# Altium footprint library rt10.PcbLib: 51 footprints (part 1 of 4)
Each footprint in its own frame and in the unit in brackets; x right, y up, seen from the top. Pads: shape width x height; smd on the part's side, far side on the other; paste and mask are expansions set on the pad; w line width, h text height; cw(c..) or ccw(c..) is an arc to the next point about the centre after c.
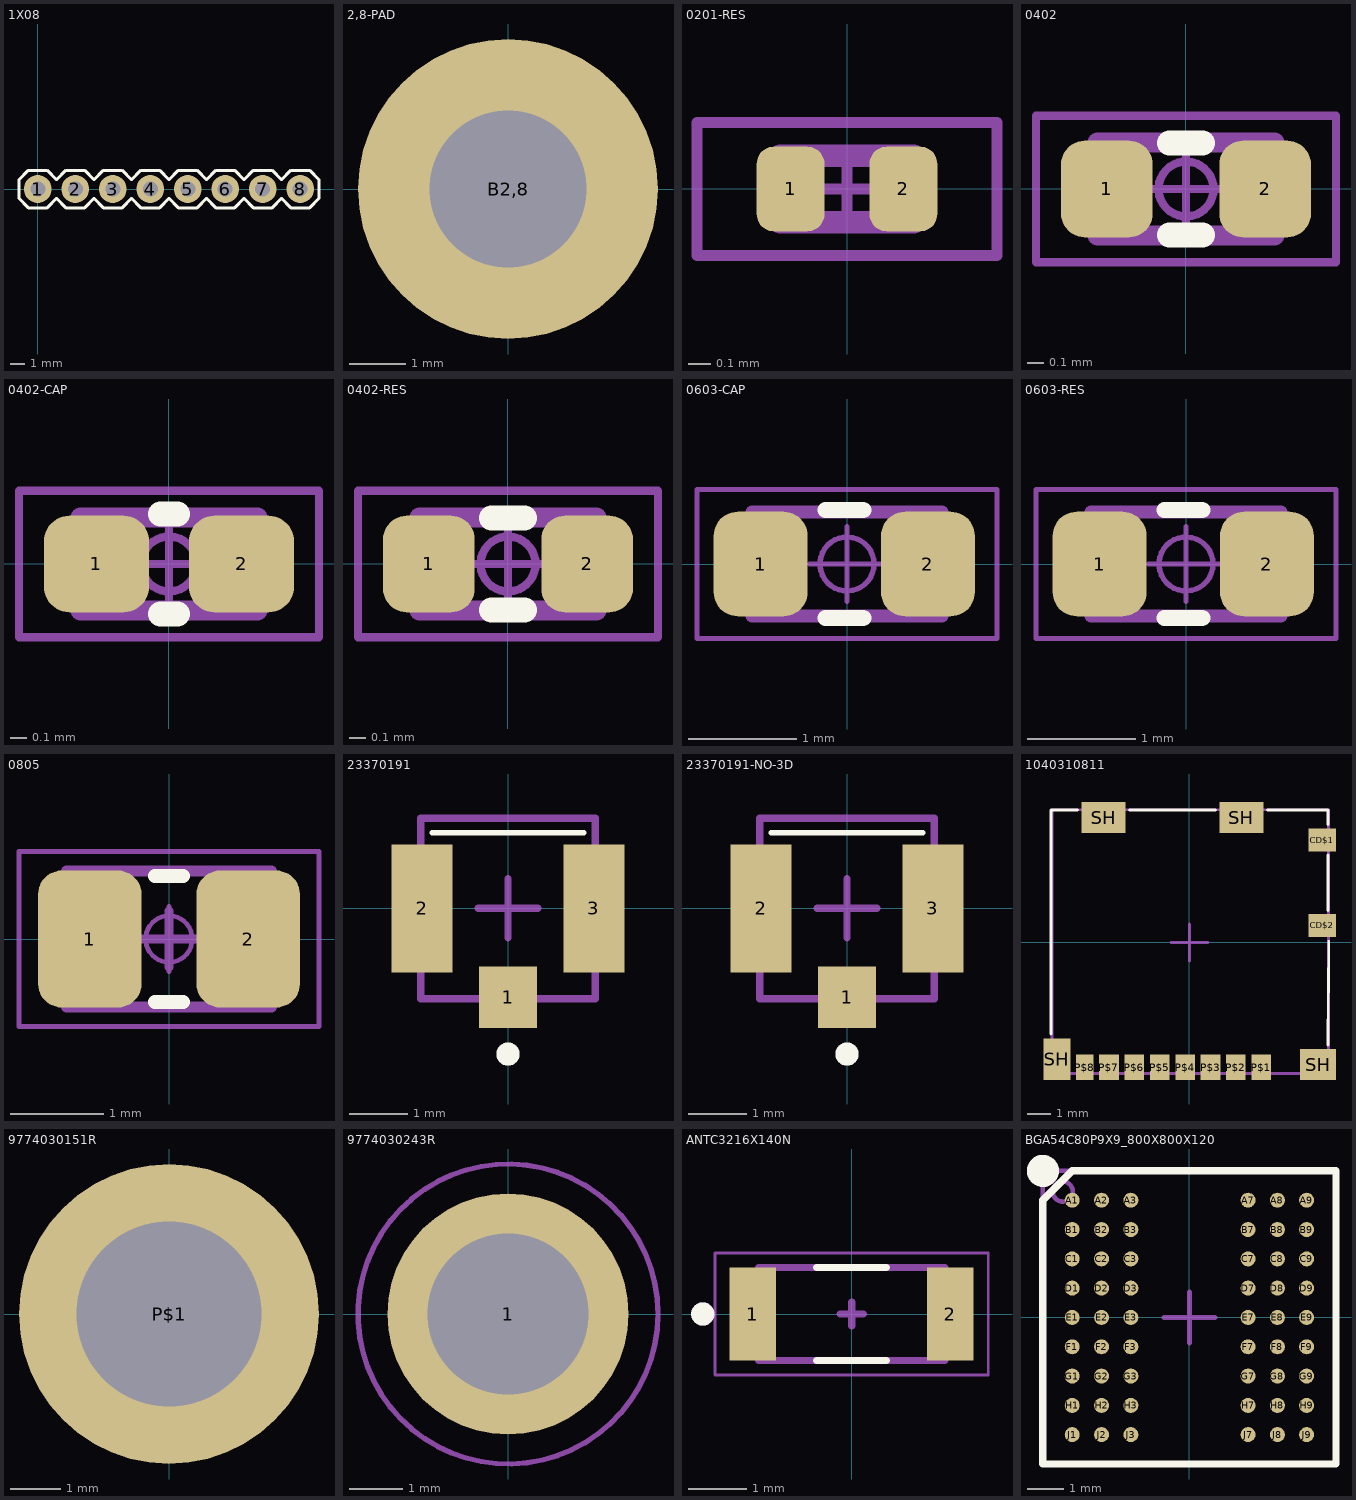
[diagram p0: the footprints below, top view; thin cyan lines are the x and y axes]

## 1X08 [mil] "1X08"
pads (8):
  round 74 hole 40: 1(0,0) 2(100,0) 3(200,0) 4(300,0) 5(400,0) 6(500,0) 7(600,0) 8(700,0)
Top Overlay:
  lines w8: -50,-25 -50,25 -25,50 25,50 50,25 75,50 125,50 150,25 175,50 225,50 250,25 275,50 325,50 350,25 375,50 425,50 450,25 475,50 525,50 550,25 575,50 625,50 650,25 675,50 725,50 750,25 750,-25 725,-50 675,-50 650,-25 625,-50 575,-50 550,-25 525,-50 475,-50 450,-25 425,-50 375,-50 350,-25 325,-50 275,-50 250,-25 225,-50 175,-50 150,-25 125,-50 75,-50 50,-25 25,-50 -25,-50 -50,-25

## 2,8-PAD [mil] "2,8-PAD"
pads (1):
  round 210 hole 110.24: B2,8(0,0)

## 0201-RES [mil] "0201 IPC-7351"
height 10.24
pads (2):
  rrect50% 12x15 smd mask+1.97: 1(-10,0) 2(10,0)
Top Solder:
  rectangle: -7,-9 8,9
Mechanical 13:
  lines w3.94: -11.81,-5.91 11.81,-5.91 11.81,5.91 -11.81,5.91 -11.81,-5.91
  text ".designator" at -7.87,-2.95 h15.75
Mechanical 15:
  lines w1.97: -3.94,0 0,0 ; 0,-3.94 0,0 ; 0,3.94 0,0 ; 3.94,0 0,0 ; -26.57,-11.81 26.57,-11.81 26.57,11.81 -26.57,11.81 -26.57,-11.81
3D body "R0201.step": height 9.06, standoff 0, extent -11.81,-5.91 11.81,5.91

## 0402 [mm] "Chip Resistor, 2-Leads, Body  0402 (in) 1005 (mm), IPC Medium Density"
height 0.5
pads (2):
  rrect51% 0.55x0.58 smd mask+0.05: 1(-0.475,0) 2(0.475,0)
Top Overlay:
  lines w0.15: -0.1,-0.275 0.1,-0.275 ; -0.1,0.275 0.1,0.275
Mechanical 13:
  lines w0.12: -0.53,-0.28 -0.53,0.28 0.53,0.28 0.53,-0.28 -0.53,-0.28
  text ".designator" at -0.432,-0.152 h0.3
Mechanical 15:
  circle w0.05: c0,0 r0.165
  lines w0.05: -0.22,0 0.22,0 ; 0,-0.22 0,0.22 ; -0.9,-0.44 -0.9,0.44 0.9,0.44 0.9,-0.44 -0.9,-0.44
3D body "RES-0402.stp": height 0.34, standoff 0, extent -0.5,-0.25 0.5,0.25

## 0402-CAP [mm] "Chip Capacitor, 2-Leads, Body  0402 (in) 1005 (mm), IPC Medium Density"
height 0.5
pads (2):
  rrect52% 0.63x0.58 smd mask+0.05: 1(-0.435,0) 2(0.435,0)
Top Overlay:
  lines w0.15: -0.05,-0.3 0.05,-0.3 ; -0.05,0.3 0.05,0.3
Mechanical 13:
  lines w0.12: -0.53,-0.28 -0.53,0.28 0.53,0.28 0.53,-0.28 -0.53,-0.28
  text ".designator" at -0.432,-0.178 h0.3
Mechanical 15:
  circle w0.05: c0,0 r0.165
  lines w0.05: -0.22,0 0.22,0 ; 0,-0.22 0,0.22 ; -0.9,-0.44 -0.9,0.44 0.9,0.44 0.9,-0.44 -0.9,-0.44
3D body "CAP-0402.stp": height 0.5, standoff 0, extent -0.5,-0.25 0.5,0.25

## 0402-RES [mm] "Chip Resistor, 2-Leads, Body  0402 (in) 1005 (mm), IPC Medium Density"
height 0.5
pads (2):
  rrect51% 0.55x0.58 smd mask+0.05: 1(-0.475,0) 2(0.475,0)
Top Overlay:
  lines w0.15: -0.1,-0.275 0.1,-0.275 ; -0.1,0.275 0.1,0.275
Mechanical 13:
  lines w0.12: -0.53,-0.28 -0.53,0.28 0.53,0.28 0.53,-0.28 -0.53,-0.28
  text ".designator" at -0.432,-0.152 h0.3
Mechanical 15:
  circle w0.05: c0,0 r0.165
  lines w0.05: -0.22,0 0.22,0 ; 0,-0.22 0,0.22 ; -0.9,-0.44 -0.9,0.44 0.9,0.44 0.9,-0.44 -0.9,-0.44
3D body "RES-0402.stp": height 0.34, standoff 0, extent -0.5,-0.25 0.5,0.25

## 0603-CAP [mm] "Chip Capacitor, Body 0603 imperial,1.6x0.8mm, IPC High Density"
height 1.3
pads (2):
  rrect51% 0.87x0.97 smd: 1(-0.8,0) 2(0.75,0)
Top Overlay:
  lines w0.15: -0.2,-0.5 0.15,-0.5 ; -0.2,0.5 0.15,0.5
Mechanical 13:
  lines w0.12: -0.88,-0.48 -0.88,0.48 0.88,0.48 0.88,-0.48 -0.88,-0.48
  text ".designator" at -0.66,-0.229 h0.3
Mechanical 15:
  circle w0.05: c0,0 r0.25
  lines w0.05: -0.345,0 0.345,0 ; 0,-0.345 0,0.345 ; -1.39,-0.69 1.39,-0.69 1.39,0.69 -1.39,0.69 -1.39,-0.69
3D body "CAP-0603.stp": height 0.8, standoff 0, extent -0.8,-0.4 0.8,0.4

## 0603-RES [mm]
height 1.3
pads (2):
  rrect51% 0.87x0.97 smd mask+0.05: 1(-0.8,0) 2(0.75,0)
Top Overlay:
  lines w0.15: -0.2,-0.5 0.15,-0.5 ; -0.2,0.5 0.15,0.5
Mechanical 13:
  lines w0.12: -0.88,-0.48 0.88,-0.48 0.88,0.48 -0.88,0.48 -0.88,-0.48
  text ".designator" at -0.762,-0.305 h0.3
Mechanical 15:
  circle w0.05: c0,0 r0.25
  lines w0.05: -0.345,0 0.345,0 ; 0,-0.345 0,0.345 ; -1.39,-0.69 -1.39,0.69 1.39,0.69 1.39,-0.69 -1.39,-0.69
3D body "R0603.step": height 0.45, standoff 0, extent -0.8,-0.4 0.8,0.4

## 0805 [mm] "Chip Capacitor, Body 0805 imperial, 2.0x1.2mm, IPC Medium Density"
height 0.7
pads (2):
  rrect45% 1.11x1.47 smd: 1(-0.85,0) 2(0.85,0)
Top Overlay:
  lines w0.15: -0.15,-0.675 0.15,-0.675 ; -0.15,0.675 0.15,0.675
Mechanical 13:
  lines w0.1: -0.3,0 0,0 ; 0,-0.3 0,0 ; 0,0.3 0,0 ; 0.3,0 0,0
  lines w0.12: -1.1,-0.73 1.1,-0.73 1.1,0.73 -1.1,0.73 -1.1,-0.73
  text ".designator" at -1,-0.625 h0.3
Mechanical 15:
  circle w0.05: c0,0 r0.25
  lines w0.05: -0.35,0 0.35,0 ; 0,-0.35 0,0.35 ; -1.61,-0.94 1.61,-0.94 1.61,0.94 -1.61,0.94 -1.61,-0.94
3D body "CAP-0805.stp": height 1.25, standoff 0, extent -1,-0.625 1,0.625

## 23370191 [mm] "23370191"
pads (3):
  rect 1x1.05 smd: 1(0,-1.525)
  rect 1.05x2.2 smd: 2(-1.475,0) 3(1.475,0)
Top Overlay:
  lines w0.1: -1.3,1.3 1.3,1.3
  lines w0.2: -0.1,-2.5 cw(c0,-2.5) 0.1,-2.5 cw(c0,-2.5) -0.1,-2.5
Mechanical 13:
  lines w0.127: -0.508,0 0,0 ; 0,-0.508 0,0 ; 0,0.508 0,0 ; 0.508,0 0,0 ; -1.5,-1.55 -1.5,1.55 1.5,1.55 1.5,-1.55 -1.5,-1.55
  text ".designator" at -1.325,-1.65 h0.64
3D body "c-2337019-1-a2-3d.stp": height 1.26, standoff 0.01, extent -1.5,-1.55 1.5,1.55

## 23370191-NO-3D [mm] "23370191"
pads (3):
  rect 1x1.05 smd: 1(0,-1.525)
  rect 1.05x2.2 smd: 2(-1.475,0) 3(1.475,0)
Top Overlay:
  lines w0.1: -1.3,1.3 1.3,1.3
  lines w0.2: -0.1,-2.5 cw(c0,-2.5) 0.1,-2.5 cw(c0,-2.5) -0.1,-2.5
Mechanical 13:
  lines w0.127: -0.508,0 0,0 ; 0,-0.508 0,0 ; 0,0.508 0,0 ; 0.508,0 0,0 ; -1.5,-1.55 -1.5,1.55 1.5,1.55 1.5,-1.55 -1.5,-1.55
  text ".designator" at -1.325,-1.65 h0.64

## 1040310811 [mm] "1040310811"
pads (14):
  rect 1.2x1 smd: CD$1(5.747,4.438) CD$2(5.747,0.738)
  rect 0.85x1.1 smd: P$1(3.112,-5.412) P$2(2.013,-5.412) P$3(0.912,-5.412) P$4(-0.188,-5.412) P$5(-1.287,-5.412) P$6(-2.387,-5.412) P$7(-3.488,-5.412)
  rect 0.75x1.1 smd: P$8(-4.538,-5.412)
  rect 1.17x1.8 smd: SH(-5.747,-5.062)
  rect 1.9x1.35 smd: SH(-3.722,5.412) SH(2.248,5.412)
  rect 1.55x1.35 smd: SH(5.573,-5.288)
Top Overlay:
  lines w0.127: -5.992,-3.962 -5.992,5.738 -4.842,5.738 ; -2.592,5.738 1.133,5.738 ; 3.383,5.738 6.007,5.738 6.007,5.113 ; 6.007,-4.437 6.033,0.038 ; 6.008,1.388 6.008,3.788
Mechanical 13:
  lines w0.127: -0.8,0 0,0 ; 0,-0.8 0,0 ; 0,0.8 0,0 ; 0.8,0 0,0 ; -5.95,-5.675 -5.95,5.75 6.025,5.75 6.025,-5.675 -5.95,-5.675
  text ".designator" at -2.5,-2.55 h0.64
3D body "1040310811.stp": height 1.46, standoff 0.01, extent -5.942,-5.662 6.008,5.738

## 9774030151R [mm] "9774030151R"
pads (1):
  round 6 hole 3.7: P$1(0,0)
Top Paste:
  drawing of 12 lines, arcs and shapes, not listed
Mechanical 13:
  circle w0.127: c0,0 r2.508
  lines w0.127: -0.6,0 0,0 ; 0,-0.6 0,0 ; 0,0.6 0,0 ; 0.6,0 0,0
  text ".designator" at -1,-2.35 h0.64
3D body "9774030151R (rev1).stp": height 3, standoff -1.4, extent -2.55,-2.547 2.55,2.547

## 9774030243R [mm] "Round Standoff Threaded M2x0.4 Steel 0.118\" (3.00mm)"
pads (1):
  round 4.5 hole 3 unplated mask+0.05: 1(0,0)
Top Paste:
  circle w3: c0,0 r0.707
Mechanical 13:
  circle w0.1: c0,0 r2.175
  circle w0.1: c0,0 r1.25
  lines w0.1: -1.25,0 0,0 ; 0,-1.25 0,0 ; 0,1.25 0,0 ; 1.25,0 0,0
  text ".designator" at -0.9,1.3 h0.5
Mechanical 15:
  circle w0.1: c0,0 r2.8
  lines w0.1: -1.25,0 0,0 ; 0,-1.25 0,0 ; 0,1.25 0,0 ; 1.25,0 0,0
3D body "9774030243R (rev1).stp": height 3.01, standoff -1.39, extent -2.175,-2.172 2.175,2.172

## ANTC3216X140N [mm] "ANTC3216X140N"
pads (2):
  rect 0.8x1.6 smd: 1(-1.7,0) 2(1.7,0)
Top Overlay:
  circle w0.2: c-2.558,0 r0.1
  lines w0.127: -0.6,-0.8 0.6,-0.8 ; -0.6,0.8 0.6,0.8
Mechanical 13:
  circle w0.2: c-2.558,0 r0.1
  lines w0.127: -0.2,0 0.2,0 ; 0,-0.2 0,0.2 ; -1.6,-0.8 1.6,-0.8 1.6,0.8 -1.6,0.8 -1.6,-0.8
  text ".designator" at -1.5,0.75 h0.64
Mechanical 15:
  lines w0.05: -2.35,-1.05 2.35,-1.05 2.35,1.05 -2.35,1.05 -2.35,-1.05
3D body "step_temp.STEP": height 1.2, standoff 0, extent -1.6,-0.8 1.6,0.8

## BGA54C80P9X9_800X800X120 [mil] "BGA54C80P9X9_800X800X120"
pads (54):
  rrect100% 16.14x16.14 smd: A1(-125.98,125.98) A2(-94.49,125.98) A3(-62.99,125.98) A7(62.99,125.98) A8(94.49,125.98) A9(125.98,125.98) B1(-125.98,94.49) B2(-94.49,94.49) B3(-62.99,94.49) B7(62.99,94.49) B8(94.49,94.49) B9(125.98,94.49) C1(-125.98,62.99) C2(-94.49,62.99) C3(-62.99,62.99) C7(62.99,62.99) C8(94.49,62.99) C9(125.98,62.99) D1(-125.98,31.5) D2(-94.49,31.5) D3(-62.99,31.5) D7(62.99,31.5) D8(94.49,31.5) D9(125.98,31.5) E1(-125.98,0) E2(-94.49,0) E3(-62.99,0) E7(62.99,0) E8(94.49,0) E9(125.98,0) F1(-125.98,-31.5) F2(-94.49,-31.5) F3(-62.99,-31.5) F7(62.99,-31.5) F8(94.49,-31.5) F9(125.98,-31.5) G1(-125.98,-62.99) G2(-94.49,-62.99) G3(-62.99,-62.99) G7(62.99,-62.99) G8(94.49,-62.99) G9(125.98,-62.99) H1(-125.98,-94.49) H2(-94.49,-94.49) H3(-62.99,-94.49) H7(62.99,-94.49) H8(94.49,-94.49) H9(125.98,-94.49) J1(-125.98,-125.98) J2(-94.49,-125.98) J3(-62.99,-125.98) J7(62.99,-125.98) J8(94.49,-125.98) J9(125.98,-125.98)
Top Overlay:
  circle w19.68: c-157.48,157.48 r7.42
  lines w7.87: -157.48,-157.48 -157.48,125.98 -125.98,157.48 157.48,157.48 157.48,-157.48 -157.48,-157.48
Mechanical 13:
  circle w5: c-136.19,135.28 r10.79
  lines w5: -27.56,0 27.56,0 ; 0,-27.56 0,27.56 ; -157.48,-157.48 -157.48,157.48 157.48,157.48 157.48,-157.48 -157.48,-157.48
  text ".designator" at -118.11,-139.77 h25
3D body: height 47.24, standoff 0, extent -157.48,-157.48 157.48,157.48